# Altium schematic symbol library Modulo-1B-TY.SchLib: 37 symbols (part 2 of 2)
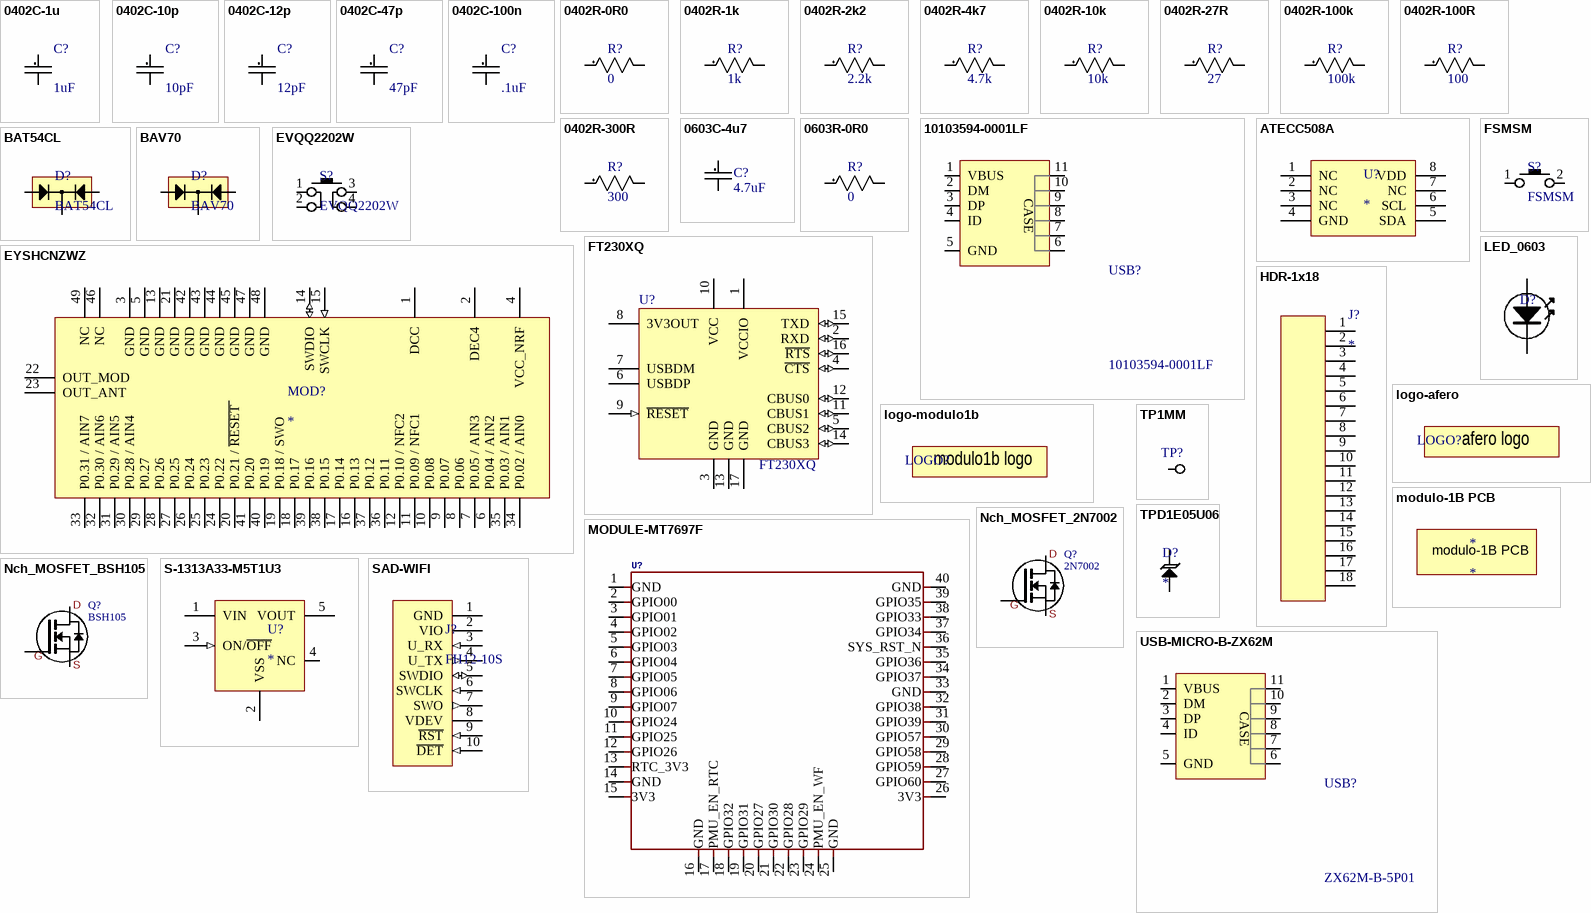
[diagram p1: symbols 0402C-1u to USB-MICRO-B-ZX62M]

## SAD-WIFI
designator J?, comment FH12-10S
Afero SAD connector; Manufacturer: Hirose; Manufacturer Part Number: FH12-10S-0.5SH(55); Actuator Material: Polyphenylene; Current Rating: 500mA; Voltage Rating: 50V; Number of Positions: 10; Wire/Cable Type: Straight; Insulation Resistance: 500MR; Contact Resistance: 50mR; Mating Cycles: 20; Gender: Female; Max Current Rating: 400mA; Contact Location: Bottom; Pitch: 0.5mm; item_number: M-CON-00064-00; Supplier 1: Digi-Key; Supplier Part Number 1: HFJ110CT-ND; Stock 1: 35610; Pricing 1: 1=1.54, 10=1.401, 25=1.3156, 50=1.2584, 100=1.2012, 250=1.0868, 500=1.001, 1000=0.858 (USD); Mount: Surface Mount; Contact Material: Bronze; Contact Plating: Gold; Housing Material: Polyamide; Housing Colour: Beige; Material: Polyamide; Colour: Beige,Brown; Min Operating Temperature: -40°C; Max Operating Temperature: 70°C; Termination: Solder; Packaging: Tape and Reel; Package Quantity: 2000; Number of Contacts: 10; Number of Rows: 1; Orientation: Right Angle; Voltage Rating (AC): 50V; Max Voltage Rating (AC): 50V; Length: 9.1mm; Width: 9.1mm; Lead Pitch: 0.5mm; Depth: 5.6mm; Radiation Hardening: No; Flammability Rating: UL94 V-0; Lead Free: Lead Free; REACH SVHC: No SVHC; ComponentLink1URL: https://datasheet.ciiva.com/15176/getdatasheetpartid-470028-15176901.pdf; ComponentLink1Description: https://datasheet.ciiva.com/15176/getdatasheetpartid-470028-15176901.pdf; ComponentLink2URL: https://datasheet.ciiva.com/7661/58803-7661366.pdf; ComponentLink2Description: https://datasheet.ciiva.com/7661/58803-7661366.pdf; ComponentLink3URL: https://datasheet.ciiva.com/11745/0900766b80d985fc-11745079.pdf; ComponentLink3Description: https://datasheet.ciiva.com/11745/0900766b80d985fc-11745079.pdf; ComponentLink4URL: https://datasheet.ciiva.com/22630/58803-22630330.pdf; ComponentLink4Description: https://datasheet.ciiva.com/22630/58803-22630330.pdf
footprint AFERO-SAD (Afero Debug)
pins: 1 GND (power), 2 VIO (power), 3 U_RX (in), 4 U_TX (out), 5 SWDIO (io), 6 SWCLK (in), 7 SWO (out), 8 VDEV (power), 9 ~{RST} (in), 10 ~{DET} (in)

## TP1MM
designator TP?  (value not drawn)  (no BOM)
1mm Test Point; item_number: =item_name
footprint TP1MM (1mm test point)
pins: 1

## TPD1E05U06
designator D?
TVS Diode; Manufacturer: Texas Instruments; Manufacturer Part Number: TPD1E05U06DPYR; Number of Channels: 1; Interface: LVDS,USB,Ethernet,HDMI,PCIe,SATA; Operating Supply Voltage: 5.5V; Capacitance: 0.5pF; Direction: Unidirectional; Min Breakdown Voltage: 6V; Clamping Voltage: 14V; Peak Pulse Power: 40W; Power Line Protection: Yes; Breakdown Voltage: 6.5V; Polarity: Bidirectional; Leakage Current: 10nA; Element Configuration: Single; Peak Pulse Current: 2.5A; item_number: E-DIO-00008-00; Supplier 1: Digi-Key; Supplier Part Number 1: 296-39341-1-ND; Stock 1: 161045; Pricing 1: 1=0.5, 10=0.372, 100=0.2107, 500=0.1395, 1000=0.107 (USD); Mount: Surface Mount; Number of Pins: 2; Min Operating Temperature: -40°C; Max Operating Temperature: 125°C; Package Quantity: 10000; Packaging: Tape and Reel; Number of Bidirectional Channels: 1; Reverse Standoff Voltage: 5.5V; Termination: SMD/SMT; Working Voltage: 5.5V; Max Power Dissipation: 40W; Length: 1.1mm; Radiation Hardening: No; Lead Free: Lead Free; REACH SVHC: No SVHC; ComponentLink1URL: https://datasheet.ciiva.com/12545/tpd1e05u06-224685-12545140.pdf; ComponentLink1Description: https://datasheet.ciiva.com/12545/tpd1e05u06-224685-12545140.pdf; ComponentLink2URL: https://datasheet.ciiva.com/26918/getdatasheetpartid-700473-26918022.pdf; ComponentLink2Description: https://datasheet.ciiva.com/26918/getdatasheetpartid-700473-26918022.pdf; ComponentLink3URL: https://datasheet.ciiva.com/6574/tpd1e05u06-6574667.pdf; ComponentLink3Description: https://datasheet.ciiva.com/6574/tpd1e05u06-6574667.pdf
footprint SON70P100X45-2N (SON, 2-Leads, Body 0.60x1.00mm, Pitch 0.70mm, IPC Medium Density)
pins: 1 I/O, 2 GND

## USB-MICRO-B-ZX62M
designator USB?, comment ZX62M-B-5P01
MICRO USB B; Manufacturer: Hirose; Gender: Receptacle; Connector Type: USB,Receptacle; Number of Contacts: 5; USB Standard: USB 2.0; Current Rating: 1A; Voltage Rating: 30V; Number of Ports: 1; Pitch: 0.65mm; Supplier 1: Mouser; Supplier Part Number 1: 798-ZX62M-B-5P01; Manufacturer Part Number: ZX62M-B-5P01; Stock 1: 4323; Pricing 1: 1=0.89, 10=0.713, 100=0.682, 250=0.62, 500=0.569, 1000=0.496, 1500=0.449, 4500=0.434, 9000=0.403 (USD); Mount: Surface Mount,Horizontal; Contact Plating: Gold; Contact Material: Copper Alloy; Number of Terminals: 5; Min Operating Temperature: -30°C; Max Operating Temperature: 85°C; Packaging: Tape and Reel; Package Quantity: 1500; Orientation: Right Angle; Termination: Solder; Number of Positions: 5; Max Voltage Rating (AC): 30V; Length: 11.5mm; REACH SVHC: Unknown; Lead Free: Lead Free; Flammability Rating: UL94 V-0; ComponentLink1URL: https://datasheet.ciiva.com/26917/getdatasheetpartid-424979-26917337.pdf; ComponentLink1Description: https://datasheet.ciiva.com/26917/getdatasheetpartid-424979-26917337.pdf; ComponentLink2URL: https://datasheet.ciiva.com/4599/ed-zx-20140804-461411-4599115.pdf; ComponentLink2Description: https://datasheet.ciiva.com/4599/ed-zx-20140804-461411-4599115.pdf; ComponentLink3URL: https://datasheet.ciiva.com/22825/0900766b8118f7b1-22825835.pdf; ComponentLink3Description: https://datasheet.ciiva.com/22825/0900766b8118f7b1-22825835.pdf; item_number: =item_name
footprint ZX62M-B-5P-01
pins: 1 VBUS, 2 DM, 3 DP, 4 ID, 5 GND, 6 CASE, 7 CASE, 8 CASE, 9 CASE, 10 CASE, 11 CASE